# Altium footprint library 集成块.PcbLib: 98 footprints (part 3 of 7)
Each footprint in its own frame and in the unit in brackets; x right, y up, seen from the top. Pads: shape width x height; smd on the part's side, far side on the other; paste and mask are expansions set on the pad; w line width, h text height; cw(c..) or ccw(c..) is an arc to the next point about the centre after c.
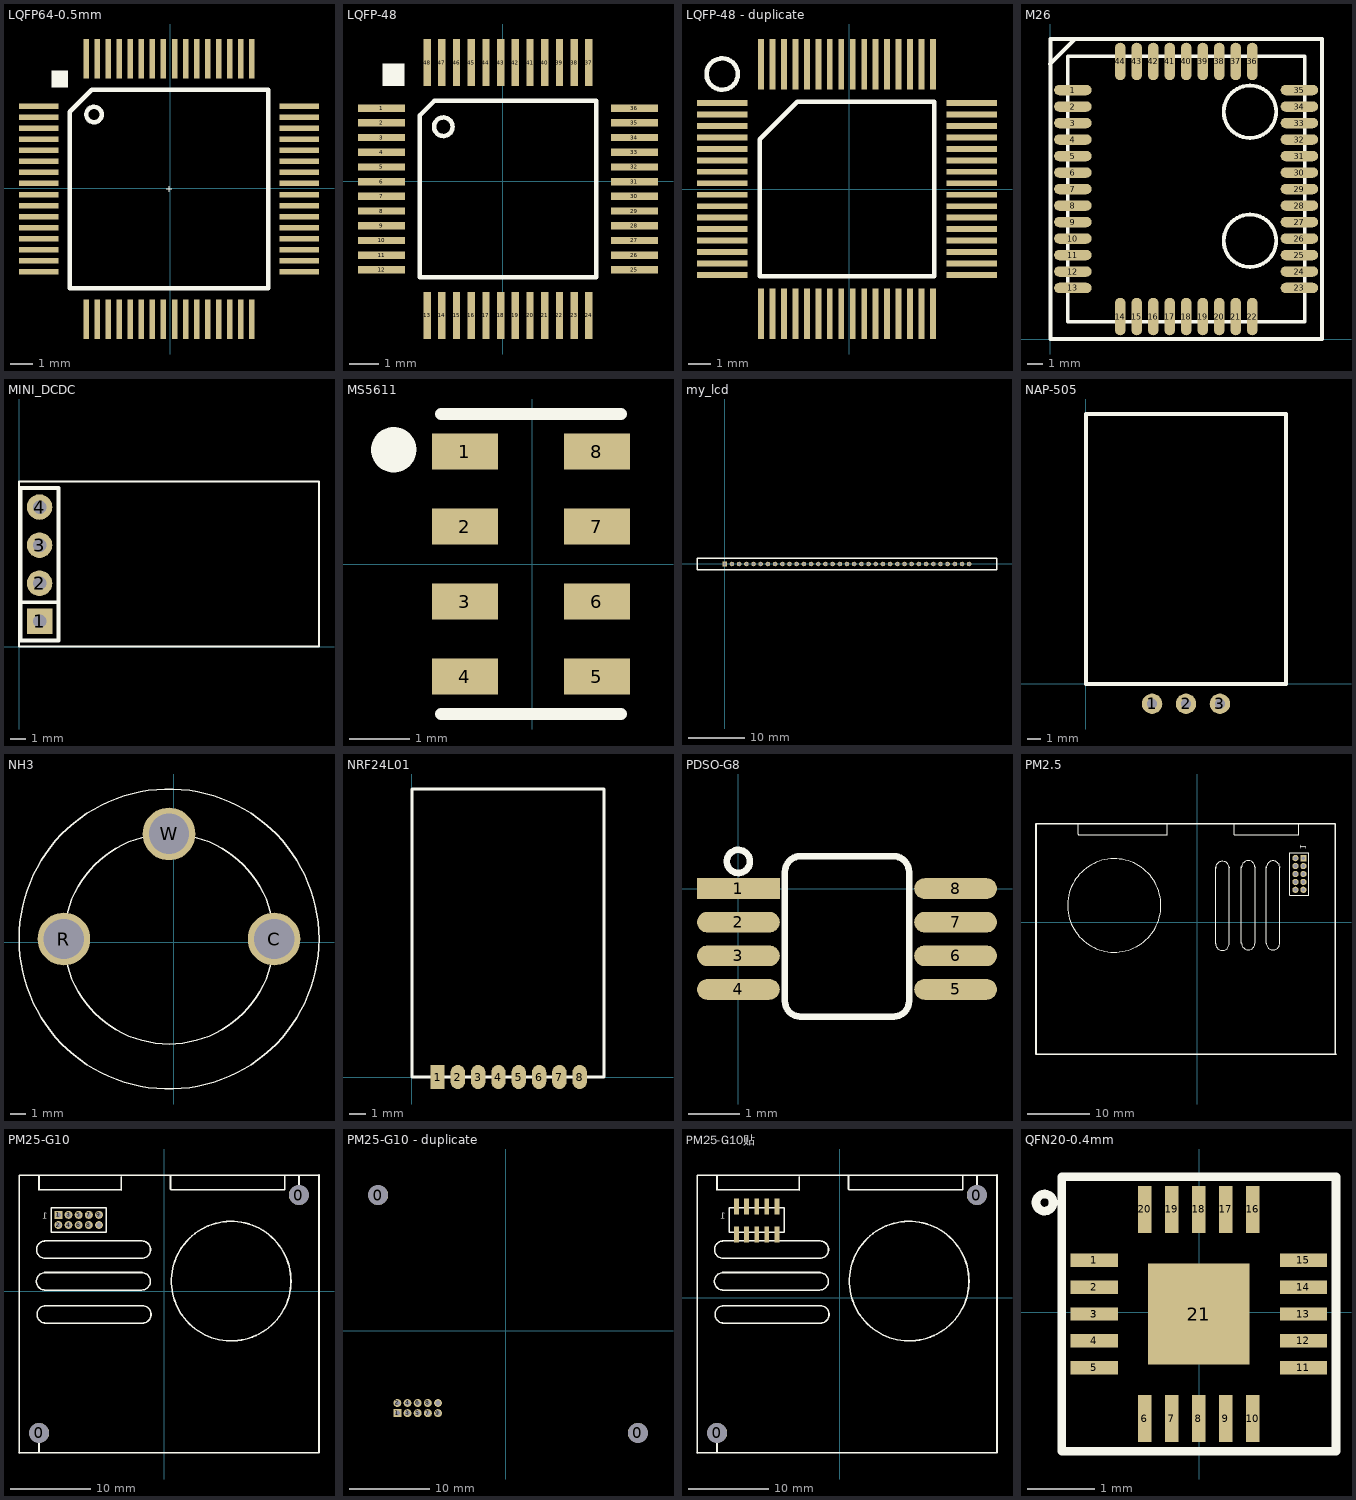
[diagram p2: the footprints below, top view; thin cyan lines are the x and y axes]

## LQFP64-0.5mm [mm]
pads (64):
  rect 1.8x0.25 smd: 1(-5.951,3.725) 2(-5.951,3.225) 3(-5.951,2.725) 4(-5.951,2.225) 5(-5.951,1.725) 6(-5.951,1.225) 7(-5.951,0.725) 8(-5.951,0.225) 9(-5.951,-0.275) 10(-5.951,-0.775) 11(-5.951,-1.275) 12(-5.951,-1.775) 13(-5.951,-2.275) 14(-5.951,-2.775) 15(-5.951,-3.275) 16(-5.951,-3.775) 33(5.849,-3.775) 34(5.849,-3.275) 35(5.849,-2.775) 36(5.849,-2.275) 37(5.849,-1.775) 38(5.849,-1.275) 39(5.849,-0.775) 40(5.849,-0.275) 41(5.849,0.225) 42(5.849,0.725) 43(5.849,1.225) 44(5.849,1.725) 45(5.849,2.225) 46(5.849,2.725) 47(5.849,3.225) 48(5.849,3.725)
  rect 0.25x1.8 smd: 17(-3.801,-5.925) 18(-3.301,-5.925) 19(-2.801,-5.925) 20(-2.301,-5.925) 21(-1.801,-5.925) 22(-1.301,-5.925) 23(-0.801,-5.925) 24(-0.301,-5.925) 25(0.199,-5.925) 26(0.699,-5.925) 27(1.199,-5.925) 28(1.699,-5.925) 29(2.199,-5.925) 30(2.699,-5.925) 31(3.199,-5.925) 32(3.699,-5.925) 49(3.699,5.875) 50(3.199,5.875) 51(2.699,5.875) 52(2.199,5.875) 53(1.699,5.875) 54(1.199,5.875) 55(0.699,5.875) 56(0.199,5.875) 57(-0.301,5.875) 58(-0.801,5.875) 59(-1.301,5.875) 60(-1.801,5.875) 61(-2.301,5.875) 62(-2.801,5.875) 63(-3.301,5.875) 64(-3.801,5.875)
Top Overlay:
  circle w0.2: c-3.451,3.35 r0.35
  region: -5.376,5.35 -5.376,4.575 -4.626,4.575 -4.626,5.35
  lines w0.001: -0.171,-0.025 0.069,-0.025 ; -0.051,-0.145 -0.051,0.095
  lines w0.2: -4.551,3.475 -4.551,-4.525 4.449,-4.525 4.449,4.475 -3.551,4.475
  lines w0.203: -4.551,3.475 -3.551,4.475

## LQFP-48 [mm]
pads (48):
  rect 1.6x0.25 smd: 1(-4.117,2.48) 2(-4.117,1.98) 3(-4.117,1.48) 4(-4.117,0.98) 5(-4.117,0.48) 6(-4.117,-0.02) 7(-4.117,-0.52) 8(-4.117,-1.02) 9(-4.117,-1.52) 10(-4.117,-2.02) 11(-4.117,-2.52) 12(-4.117,-3.02) 25(4.483,-3.02) 26(4.483,-2.52) 27(4.483,-2.02) 28(4.483,-1.52) 29(4.483,-1.02) 30(4.483,-0.52) 31(4.483,-0.02) 32(4.483,0.48) 33(4.483,0.98) 34(4.483,1.48) 35(4.483,1.98) 36(4.483,2.48)
  rect 0.25x1.6 smd: 13(-2.567,-4.57) 14(-2.067,-4.57) 15(-1.567,-4.57) 16(-1.067,-4.57) 17(-0.567,-4.57) 18(-0.067,-4.57) 19(0.433,-4.57) 20(0.933,-4.57) 21(1.433,-4.57) 22(1.933,-4.57) 23(2.433,-4.57) 24(2.933,-4.57) 37(2.933,4.03) 38(2.433,4.03) 39(1.933,4.03) 40(1.433,4.03) 41(0.933,4.03) 42(0.433,4.03) 43(-0.067,4.03) 44(-0.567,4.03) 45(-1.067,4.03) 46(-1.567,4.03) 47(-2.067,4.03) 48(-2.567,4.03)
Top Overlay:
  circle w0.152: c-2.017,1.846 r0.316
  region: -4.092,4.005 -4.092,3.23 -3.342,3.23 -3.342,4.005
  lines w0.152: -2.817,-3.27 3.183,-3.27 3.183,2.73 -2.317,2.73 -2.817,2.23 -2.817,-3.27

## LQFP-48 - duplicate [mil]
pads (64):
  rect 86.61x10 smd: 1(-218.13,147.85) 2(-218.13,128.16) 3(-218.13,108.48) 4(-218.13,88.8) 5(-218.13,69.11) 6(-218.13,49.42) 7(-218.13,29.74) 8(-218.13,10.05) 9(-218.13,-9.63) 10(-218.13,-29.32) 11(-218.13,-49) 12(-218.13,-68.69) 13(-218.13,-88.37) 14(-218.13,-108.06) 15(-218.13,-127.74) 16(-218.13,-147.43) 33(211,-147.43) 34(211,-127.74) 35(211,-108.06) 36(211,-88.37) 37(211,-68.69) 38(211,-49) 39(211,-29.32) 40(211,-9.63) 41(211,10.05) 42(211,29.74) 43(211,49.42) 44(211,69.11) 45(211,88.8) 46(211,108.48) 47(211,128.16) 48(211,147.85)
  rect 10x86.61 smd: 17(-151.2,-214.35) 18(-131.52,-214.35) 19(-111.83,-214.35) 20(-92.15,-214.35) 21(-72.46,-214.35) 22(-52.78,-214.35) 23(-33.09,-214.35) 24(-13.41,-214.35) 25(6.28,-214.35) 26(25.96,-214.35) 27(45.65,-214.35) 28(65.33,-214.35) 29(85.02,-214.35) 30(104.7,-214.35) 31(124.39,-214.35) 32(144.07,-214.35) 49(144.07,214.78) 50(124.39,214.78) 51(104.7,214.78) 52(85.02,214.78) 53(65.33,214.78) 54(45.65,214.78) 55(25.96,214.78) 56(6.28,214.78) 57(-13.41,214.78) 58(-33.09,214.78) 59(-52.78,214.78) 60(-72.46,214.78) 61(-92.15,214.78) 62(-111.83,214.78) 63(-131.52,214.78) 64(-151.2,214.78)
Top Overlay:
  circle w7.87: c-218.13,197.85 r26.93
  lines w7.87: -153.76,-149.98 146.63,-149.98 146.63,150.41 -89.39,150.41 -153.76,86.04 -153.76,-149.98

## M26 [mm]
pads (44):
  oval 2.5x0.7 smd: 1(1.5,16.6) 2(1.5,15.5) 3(1.5,14.4) 4(1.5,13.3) 5(1.5,12.2) 6(1.5,11.1) 7(1.5,10) 8(1.5,8.9) 9(1.5,7.8) 10(1.5,6.7) 11(1.5,5.6) 12(1.5,4.5) 13(1.5,3.4) 23(16.6,3.4) 24(16.6,4.5) 25(16.6,5.6) 26(16.6,6.7) 27(16.6,7.8) 28(16.6,8.9) 29(16.6,10) 30(16.6,11.1) 31(16.6,12.2) 32(16.6,13.3) 33(16.6,14.4) 34(16.6,15.5) 35(16.6,16.6)
  oval 0.7x2.5 smd: 14(4.65,1.5) 15(5.75,1.5) 16(6.85,1.5) 17(7.95,1.5) 18(9.05,1.5) 19(10.15,1.5) 20(11.25,1.5) 21(12.35,1.5) 22(13.45,1.5) 36(13.45,18.5) 37(12.35,18.5) 38(11.25,18.5) 39(10.15,18.5) 40(9.05,18.5) 41(7.95,18.5) 42(6.85,18.5) 43(5.75,18.5) 44(4.65,18.5)
Top Overlay:
  circle w0.254: c13.3,15.15 r1.75
  circle w0.254: c13.3,6.55 r1.75
  lines w0.254: -0.025,18.339 1.636,20 1.676,20 ; 16.95,18.842 16.95,1.15 1.15,1.15 1.15,18.85 16.95,18.85 ; 0,0 18.1,0 18.1,20 0,20 0,0

## MINI_DCDC [mm]
pads (4):
  rect 1.7x1.7 hole 0.9: 1(1.372,1.676)
  round 1.7 hole 0.9: 2(1.372,4.216) 3(1.372,6.756) 4(1.372,9.296)
Top Overlay:
  lines w0.127: 20,10.998 20,0 0,0 0,11 20,11
  lines w0.254: 0.102,2.946 2.642,2.946 ; 0.102,0.406 2.642,0.406 2.642,10.566 0.102,10.566 0.102,0.406

## MS5611 [mm]
pads (8):
  rect 1.1x0.6 smd: 1(-1.125,1.875) 2(-1.125,0.625) 3(-1.125,-0.625) 4(-1.125,-1.875) 5(1.075,-1.875) 6(1.075,-0.625) 7(1.075,0.625) 8(1.075,1.875)
Top Overlay:
  circle w0.5: c-2.311,1.905 r0.127
  lines w0.2: -1.525,-2.5 1.475,-2.5 ; -1.525,2.5 1.475,2.5

## my_lcd [mm]
pads (35):
  rect 0.8x0.8 hole 0.5: 1(0,0)
  round 0.8 hole 0.5: 2(1.27,0) 3(2.54,0) 4(3.81,0) 5(5.08,0) 6(6.35,0) 7(7.62,0) 8(8.89,0) 9(10.16,0) 10(11.43,0) 11(12.7,0) 12(13.97,0) 13(15.24,0) 14(16.51,0) 15(17.78,0) 16(19.05,0) 17(20.32,0) 18(21.59,0) 19(22.86,0) 20(24.13,0) 21(25.4,0) 22(26.67,0) 23(27.94,0) 24(29.21,0) 25(30.48,0) 26(31.75,0) 27(33.02,0) 28(34.29,0) 29(35.56,0) 30(36.83,0) 31(38.1,0) 32(39.37,0) 33(40.64,0) 34(41.91,0) 35(43.18,0)
Top Overlay:
  lines w0.254: -4.91,-1 48.09,-1 48.09,1 -4.91,1 -4.91,-1

## NAP-505 [mil]
pads (3):
  round 60 hole 30: 1(195.28,-59.06) 2(295.28,-59.06) 3(395.28,-59.06)
Top Overlay:
  lines w11.81: 590,795.28 0,795.28 0,0 590.55,0 590.55,795.28

## NH3 [mm]
pads (3):
  round 3.5 hole 2.7: C(6.695,0.203) R(-7.305,0.203) W(-0.305,7.203)
Top Overlay:
  circle w0.1: c-0.305,0.203 r10
  circle w0.1: c-0.305,0.203 r7

## NRF24L01 [mm]
pads (8):
  rect 0.9x1.5 smd: 1(1.6,0)
  oval 0.9x1.5 smd: 2(2.87,0) 3(4.14,0) 4(5.41,0) 5(6.68,0) 6(7.95,0) 7(9.22,0) 8(10.49,0)
Top Overlay:
  lines w0.2: 0,0 12.014,0 12.014,18.009 0,18.009 0,0

## PDSO-G8 [mm]
pads (8):
  rect 1.6x0.4 smd: 1(0,0)
  oval 1.6x0.4 smd: 2(0,-0.65) 3(0,-1.3) 4(0,-1.95) 5(4.2,-1.95) 6(4.2,-1.3) 7(4.2,-0.65) 8(4.2,0)
Top Overlay:
  circle w0.127: c0,0.525 r0.224
  lines w0.127: 0.9,-2.175 ccw(c1.2,-2.175) 1.2,-2.475 3,-2.475 ccw(c3,-2.175) 3.3,-2.175 3.3,0.325 ccw(c3,0.325) 3,0.625 1.2,0.625 ccw(c1.2,0.325) 0.9,0.325 0.9,-2.175

## PM2.5 [mm]
pads (10):
  rect 1x1 hole 0.6: 1(17.018,10.287)
  round 1 hole 0.6: 2(15.748,10.287) 3(17.018,9.017) 4(15.748,9.017) 5(17.018,7.747) 6(15.748,7.747) 7(17.018,6.477) 8(15.748,6.477) 9(17.018,5.207) 10(15.748,5.207)
Top Overlay:
  circle w0.2: c-13.271,2.705 r7.482
  lines w0.2: -19.075,15.786 -19.075,14.11 -19.037,14.072 -4.839,14.072 -4.801,14.034 -4.801,15.773 ; 2.959,-3.416 2.959,8.801 2.984,8.826 ; 2.959,-3.391 ccw(c4.051,-3.391) 5.143,-3.391 ; 2.959,8.687 cw(c4.051,8.687) 5.143,8.687 ; 5.105,8.826 5.156,8.776 5.156,-3.467 ; 5.956,14.046 5.969,14.034 ; 5.969,15.748 5.969,14.034 ; 7.099,-3.327 7.099,8.89 7.125,8.915 ; 7.099,-3.302 ccw(c8.191,-3.302) 9.284,-3.302 ; 7.099,8.776 cw(c8.191,8.776) 9.284,8.776 ; 9.246,8.915 9.296,8.865 9.296,-3.378 ; 11.062,-3.353 11.062,8.865 11.087,8.89 ; 11.062,-3.327 ccw(c12.154,-3.327) 13.246,-3.327 ; 11.062,8.75 cw(c12.154,8.75) 13.246,8.75 ; 13.208,8.89 13.259,8.839 13.259,-3.404 ; 16.243,15.684 16.243,14.021 16.231,14.034 5.969,14.034 ; 14.848,4.307 17.918,4.307 17.918,11.187 14.848,11.187 14.848,4.307
  lines w0.254: -25.812,-21.133 -25.812,15.799 22.143,15.799 22.143,-21.133 ; -25.685,-21.133 22.245,-21.133
  text "1" at 16.542,11.633 h1

## PM25-G10 [mm]
pads (12):
  round 2.5 hole 2.5: 0(-15.646,-17.704) 0(16.866,12.065)
  rect 1x1 hole 0.6: 1(-13.233,9.587)
  round 1 hole 0.6: 2(-13.233,8.317) 3(-11.963,9.587) 4(-11.963,8.317) 5(-10.693,9.587) 6(-10.693,8.317) 7(-9.423,9.587) 8(-9.423,8.317) 9(-8.153,9.587) 10(-8.153,8.317)
Top Overlay:
  circle w0.2: c8.393,1.295 r7.482
  lines w0.2: -15.673,12.725 -15.66,12.713 ; -15.66,14.427 -15.66,12.713 ; -15.037,0.202 -15.011,0.177 -2.794,0.177 ; -15.037,2.323 -14.986,2.374 -2.743,2.374 ; -15.011,4.164 -14.986,4.139 -2.769,4.139 ; -15.011,6.285 -14.961,6.336 -2.718,6.336 ; -14.948,-3.938 -14.922,-3.964 -2.705,-3.964 ; -14.948,-1.817 -14.897,-1.766 -2.654,-1.766 ; -14.897,0.177 cw(c-14.897,1.269) -14.897,2.361 ; -14.872,4.139 cw(c-14.872,5.231) -14.872,6.323 ; -14.808,-3.964 cw(c-14.808,-2.871) -14.808,-1.779 ; -5.386,14.364 -5.386,12.7 -5.399,12.713 -15.66,12.713 ; -2.819,0.177 ccw(c-2.819,1.269) -2.819,2.361 ; -2.794,4.139 ccw(c-2.794,5.231) -2.794,6.323 ; -2.731,-3.964 ccw(c-2.73,-2.871) -2.73,-1.779 ; 0.799,14.465 0.799,12.789 0.837,12.751 15.036,12.751 15.074,12.713 15.074,14.453 ; -14.133,7.417 -7.253,7.417 -7.253,10.487 -14.133,10.487 -14.133,7.417
  lines w0.22: -18.161,-20.193 19.38,-20.193 19.38,14.58 19.355,14.554 -18.085,14.554 -18.136,14.503 ; -18.136,-20.218 -18.136,14.554 ; -18.136,-20.168 -15.646,-20.168 -15.646,-17.704 ; 16.866,12.065 16.866,14.529 19.355,14.529
  text "1" at -14.58,9.112 h0.76

## PM25-G10 - duplicate [mm]
pads (12):
  round 2.5 hole 2.5: 0(-15.977,16.993) 0(16.535,-12.776)
  rect 1x1 hole 0.6: 1(-13.564,-10.299)
  round 1 hole 0.6: 2(-13.564,-9.029) 3(-12.294,-10.299) 4(-12.294,-9.029) 5(-11.024,-10.299) 6(-11.024,-9.029) 7(-9.754,-10.299) 8(-9.754,-9.029) 9(-8.484,-10.299) 10(-8.484,-9.029)
Bottom Overlay:
  circle w0.2: c8.063,-2.007 r7.482
  lines w0.2: -16.003,-13.437 -15.99,-13.424 ; -15.99,-15.138 -15.99,-13.424 ; -15.367,-3.034 -15.316,-3.085 -3.073,-3.085 ; -15.367,-0.913 -15.342,-0.888 -3.124,-0.888 ; -15.342,-6.997 -15.291,-7.047 -3.048,-7.047 ; -15.342,-4.876 -15.316,-4.85 -3.099,-4.85 ; -15.278,1.106 -15.227,1.055 -2.984,1.055 ; -15.278,3.227 -15.253,3.252 -3.035,3.252 ; -15.227,-3.072 cw(c-15.227,-1.98) -15.227,-0.888 ; -15.202,-7.035 cw(c-15.202,-5.942) -15.202,-4.85 ; -15.138,1.068 cw(c-15.138,2.16) -15.138,3.252 ; -5.716,-15.075 -5.716,-13.411 -5.729,-13.424 -15.99,-13.424 ; -3.15,-3.072 ccw(c-3.15,-1.98) -3.15,-0.888 ; -3.124,-7.035 ccw(c-3.124,-5.942) -3.124,-4.85 ; -3.061,1.068 ccw(c-3.061,2.16) -3.061,3.252 ; 0.469,-15.176 0.469,-13.5 0.507,-13.462 14.705,-13.462 14.744,-13.424 14.744,-15.164 ; -14.464,-11.199 -14.464,-8.129 -7.584,-8.129 -7.584,-11.199 -14.464,-11.199
  lines w0.22: -18.491,19.482 19.05,19.482 19.05,-15.291 19.025,-15.265 -18.415,-15.265 -18.466,-15.215 ; -18.466,-15.265 -18.466,19.507 ; -18.466,19.456 -15.977,19.456 -15.977,16.993 ; 16.535,-12.776 16.535,-15.24 19.025,-15.24
  text "1" at -14.91,-9.823 h0.76

## PM25-G10贴 [mm]
pads (12):
  round 2.5 hole 2.5: 0(-15.367,-16.916) 0(17.145,12.852)
  rect 0.6x2 smd: 1(-12.954,11.446) 2(-12.954,7.946) 3(-11.684,11.446) 4(-11.684,7.946) 5(-10.414,11.446) 6(-10.414,7.946) 7(-9.144,11.446) 8(-9.144,7.946) 9(-7.874,11.446) 10(-7.874,7.946)
Top Overlay:
  circle w0.2: c8.673,2.083 r7.482
  lines w0.2: -15.394,13.513 -15.381,13.5 ; -15.381,15.215 -15.381,13.5 ; -14.757,0.989 -14.732,0.964 -2.515,0.964 ; -14.757,3.11 -14.707,3.161 -2.464,3.161 ; -14.732,4.952 -14.707,4.926 -2.489,4.926 ; -14.732,7.073 -14.681,7.124 -2.438,7.124 ; -14.668,-3.151 -14.643,-3.176 -2.426,-3.176 ; -14.668,-1.03 -14.618,-0.979 -2.375,-0.979 ; -14.618,0.964 cw(c-14.618,2.056) -14.618,3.148 ; -14.592,4.926 cw(c-14.592,6.019) -14.592,7.111 ; -14.529,-3.176 cw(c-14.529,-2.084) -14.529,-0.992 ; -5.107,15.151 -5.107,13.487 -5.119,13.5 -15.381,13.5 ; -2.54,0.964 ccw(c-2.54,2.056) -2.54,3.148 ; -2.515,4.926 ccw(c-2.515,6.019) -2.515,7.111 ; -2.451,-3.176 ccw(c-2.451,-2.084) -2.451,-0.992 ; 1.078,15.253 1.078,13.576 1.116,13.538 15.315,13.538 15.353,13.5 15.353,15.24 ; -13.854,8.205 -13.854,11.275 -6.974,11.275 -6.974,8.205 -13.854,8.205
  lines w0.22: -17.882,-19.406 19.66,-19.406 19.66,15.367 19.634,15.342 -17.805,15.342 -17.856,15.291 ; -17.856,-19.431 -17.856,15.342 ; -17.856,-19.38 -15.367,-19.38 -15.367,-16.916 ; 17.145,12.852 17.145,15.316 19.634,15.316
  text "1" at -14.3,9.899 h0.76

## QFN20-0.4mm [mm]
pads (22):
  rect 0.7x0.2 smd: 1(-1.556,0.774) 2(-1.556,0.374) 3(-1.556,-0.026) 4(-1.556,-0.426) 5(-1.556,-0.826) 11(1.544,-0.826) 12(1.544,-0.426) 13(1.544,-0.026) 14(1.544,0.374) 15(1.544,0.774)
  rect 0.7x0.2 smd mask-0.15: 3(-1.556,-0.026)
  rect 0.2x0.7 smd: 6(-0.806,-1.576) 7(-0.406,-1.576) 8(-0.006,-1.576) 9(0.394,-1.576) 10(0.794,-1.576) 16(0.794,1.524) 17(0.394,1.524) 18(-0.006,1.524) 19(-0.406,1.524) 20(-0.806,1.524)
  rrect0% 1.5x1.5 smd: 21(-0.006,-0.026)
Top Overlay:
  circle w0.127: c-2.292,1.625 r0.127
  lines w0.127: -2.038,-2.058 -2.038,2.006 2.026,2.006 2.026,-2.058 -2.038,-2.058